# Altium footprint library rlc.PcbLib: 20 footprints (part 2 of 2)
Each footprint in its own frame and in the unit in brackets; x right, y up, seen from the top. Pads: shape width x height; smd on the part's side, far side on the other; paste and mask are expansions set on the pad; w line width, h text height; cw(c..) or ccw(c..) is an arc to the next point about the centre after c.
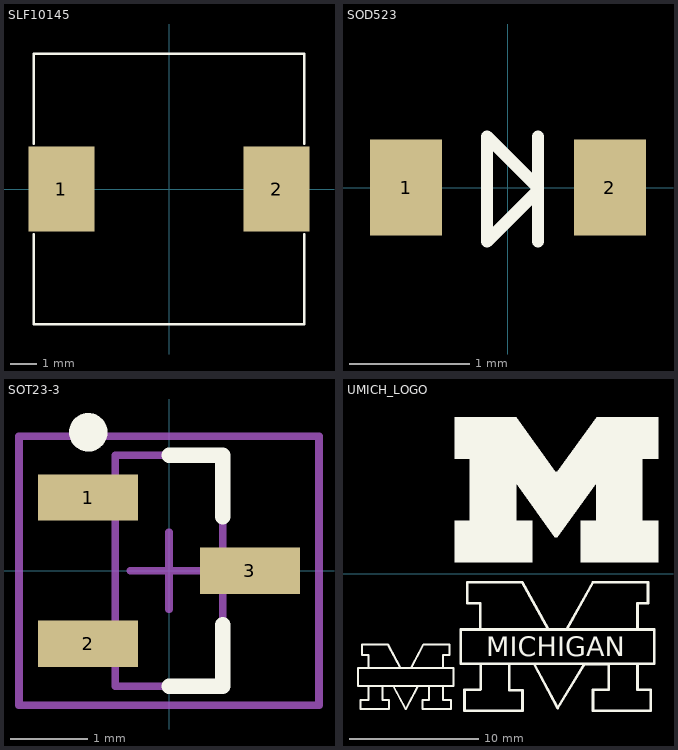
[diagram p1: the footprints below, top view; thin cyan lines are the x and y axes]

## SLF10145 [mm] "TDK chip inductors"
pads (2):
  rect 2.5x3.2 smd: 1(-4.05,0) 2(4.05,0)
Top Overlay:
  lines w0.1: -5.1,-1.7 -5.1,-5.1 5.1,-5.1 5.1,-1.7 ; -5.1,1.7 -5.1,5.1 5.1,5.1 5.1,1.7
3D body: height 4.5, standoff 0, extent -5.1,-5.1 5.1,5.1

## SOD523 [mm] "DIODES SOD523 package"
pads (2):
  rect 0.6x0.8 smd: 1(-0.85,0) 2(0.85,0)
Top Overlay:
  lines w0.1: 0.25,-0.45 0.25,0.425 ; 0.25,-0.025 -0.175,-0.45 -0.175,0.425 0.25,0
3D body: height 0.1, standoff 0, extent 0.55,-0.125 0.75,0.125
3D body: height 0.1, standoff 0, extent -0.75,-0.125 -0.55,0.125
3D body: height 0.55, standoff 0, extent -0.55,-0.35 0.55,0.35

## SOT23-3 [mm] "SOT23, 3-Leads, Body 2.9x1.3mm, Pitch 0.95mm, Lead Span 2.3mm, IPC Medium Density"
height 1.2
pads (3):
  rect 1.3x0.6 smd: 1(-1.05,0.95) 2(-1.05,-0.95) 3(1.05,0)
Top Overlay:
  circle w0.25: c-1.05,1.8 r0.125
  lines w0.2: 0,-1.5 0.7,-1.5 0.7,-0.7 ; 0,1.5 0.7,1.5 0.7,0.7
Mechanical 13:
  lines w0.1: -0.7,-1.5 0.7,-1.5 0.7,1.5 -0.7,1.5 -0.7,-1.5
Mechanical 15:
  lines w0.1: -0.5,0 0.5,0 ; 0,-0.5 0,0.5 ; -1.95,-1.75 1.95,-1.75 1.95,1.75 -1.95,1.75 -1.95,-1.75
3D body: height 1.2, standoff 0, extent -0.7,-1.5 0.7,1.5

## UMICH_LOGO [mm]
Top Overlay:
  region: -57.486,0.907 -51.491,0.907 -51.491,4.108 -52.71,4.108 -52.71,7.003 -49.739,2.838 -49.535,2.838 -46.513,7.003 -46.513,4.108 -47.732,4.108 -47.732,0.907 -41.738,0.907 -41.738,4.108 -42.957,4.108 -42.957,8.934 -41.738,8.934 -41.738,12.134 -46.487,12.134 -49.535,7.918 -49.688,7.918 -52.736,12.134 -57.486,12.134 -57.486,8.934 -56.317,8.934 -56.317,4.108 -57.486,4.108
  lines w0.15: -62.7,-5.5 -64.7,-5.5 -64.7,-6.3 -64.2,-6.3 -64.2,-7.3 ; -62.667,-5.5 -61.705,-7.303 ; -60.895,-7.303 -59.933,-5.5 ; -59.9,-5.5 -57.9,-5.5 -57.9,-6.3 -58.4,-6.3 -58.4,-7.3 ; -64.2,-8.7 -63.1,-8.7 ; -64.2,-8.7 -65,-8.7 -65,-7.3 -64.2,-7.3 ; -64.2,-8.7 -64.2,-9.8 -64.8,-9.8 -64.8,-10.5 -62.6,-10.5 -62.6,-9.8 -63.1,-9.8 -63.1,-8.7 ; -64.2,-7.3 -58.4,-7.3 ; -63.1,-8.7 -58.4,-8.7 ; -63.1,-8.7 -62.26,-8.7 -61.3,-10.5 -60.34,-8.7 -59.5,-8.7 -59.5,-9.8 -60,-9.8 -60,-10.5 -57.8,-10.5 -57.8,-9.8 -58.4,-9.8 -58.4,-8.7 ; -58.4,-8.7 -57.6,-8.7 -57.6,-7.3 -58.4,-7.3
  lines w0.203: -55.52,-8.992 -56.739,-8.992 -56.739,-10.618 -52.243,-10.618 -52.243,-9.043 -53.259,-9.043 -53.259,-6.985 -51.354,-6.985 -49.525,-10.414 -47.468,-7.011 -45.563,-7.011 -45.563,-8.992 -46.782,-8.992 -46.782,-10.618 -42.312,-10.618 -42.312,-8.992 -43.328,-8.992 -43.328,-6.985 -42.032,-6.985 ; -55.494,-8.967 -55.494,-6.985 -57.018,-6.985 ; -57.018,-6.985 -42.032,-6.985 ; -57.018,-6.985 -57.018,-4.318 ; -57.018,-6.985 -57.018,-4.318 ; -57.018,-4.318 -42.032,-4.318 ; -57.018,-4.318 -55.52,-4.318 -55.52,-2.286 -56.536,-2.286 -56.536,-0.661 -52.268,-0.661 -50.236,-4.318 -48.814,-4.318 -46.782,-0.661 -42.515,-0.661 -42.515,-2.286 -43.328,-2.286 -43.328,-4.318 -42.032,-4.318 ; -42.032,-6.985 -42.032,-4.318 ; -42.032,-6.985 -42.032,-4.318
  text "MICHIGAN" at -55.037,-6.376 h1.52